# Altium footprint library OErs_Drone.PcbLib: 17 footprints (part 2 of 2)
Each footprint in its own frame and in the unit in brackets; x right, y up, seen from the top. Pads: shape width x height; smd on the part's side, far side on the other; paste and mask are expansions set on the pad; w line width, h text height; cw(c..) or ccw(c..) is an arc to the next point about the centre after c.
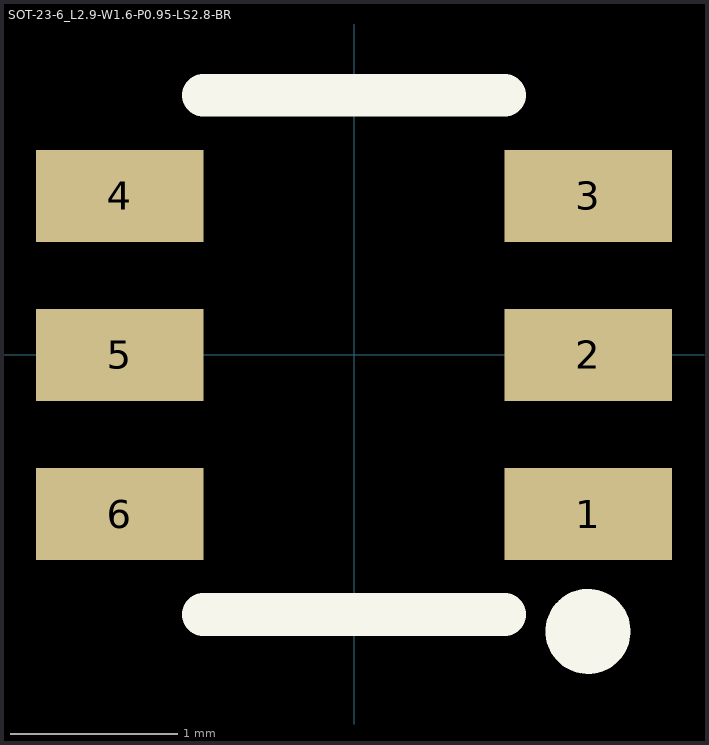
[diagram p1: the footprint, top view; thin cyan lines are the x and y axes]

## SOT-23-6_L2.9-W1.6-P0.95-LS2.8-BR [mm]
pads (6):
  rect 1x0.55 smd: 1(1.4,-0.95) 2(1.4,0) 3(1.4,0.95) 4(-1.4,0.95) 5(-1.4,0) 6(-1.4,-0.95)
Top Overlay:
  circle w0.254: c1.397,-1.651 r0.127
  lines w0.254: -0.9,-1.55 0.9,-1.55 ; -0.9,1.55 0.9,1.55